# Altium footprint library Lib Marius.PcbLib: 393 footprints (part 9 of 25)
Each footprint in its own frame and in the unit in brackets; x right, y up, seen from the top. Pads: shape width x height; smd on the part's side, far side on the other; paste and mask are expansions set on the pad; w line width, h text height; cw(c..) or ccw(c..) is an arc to the next point about the centre after c.
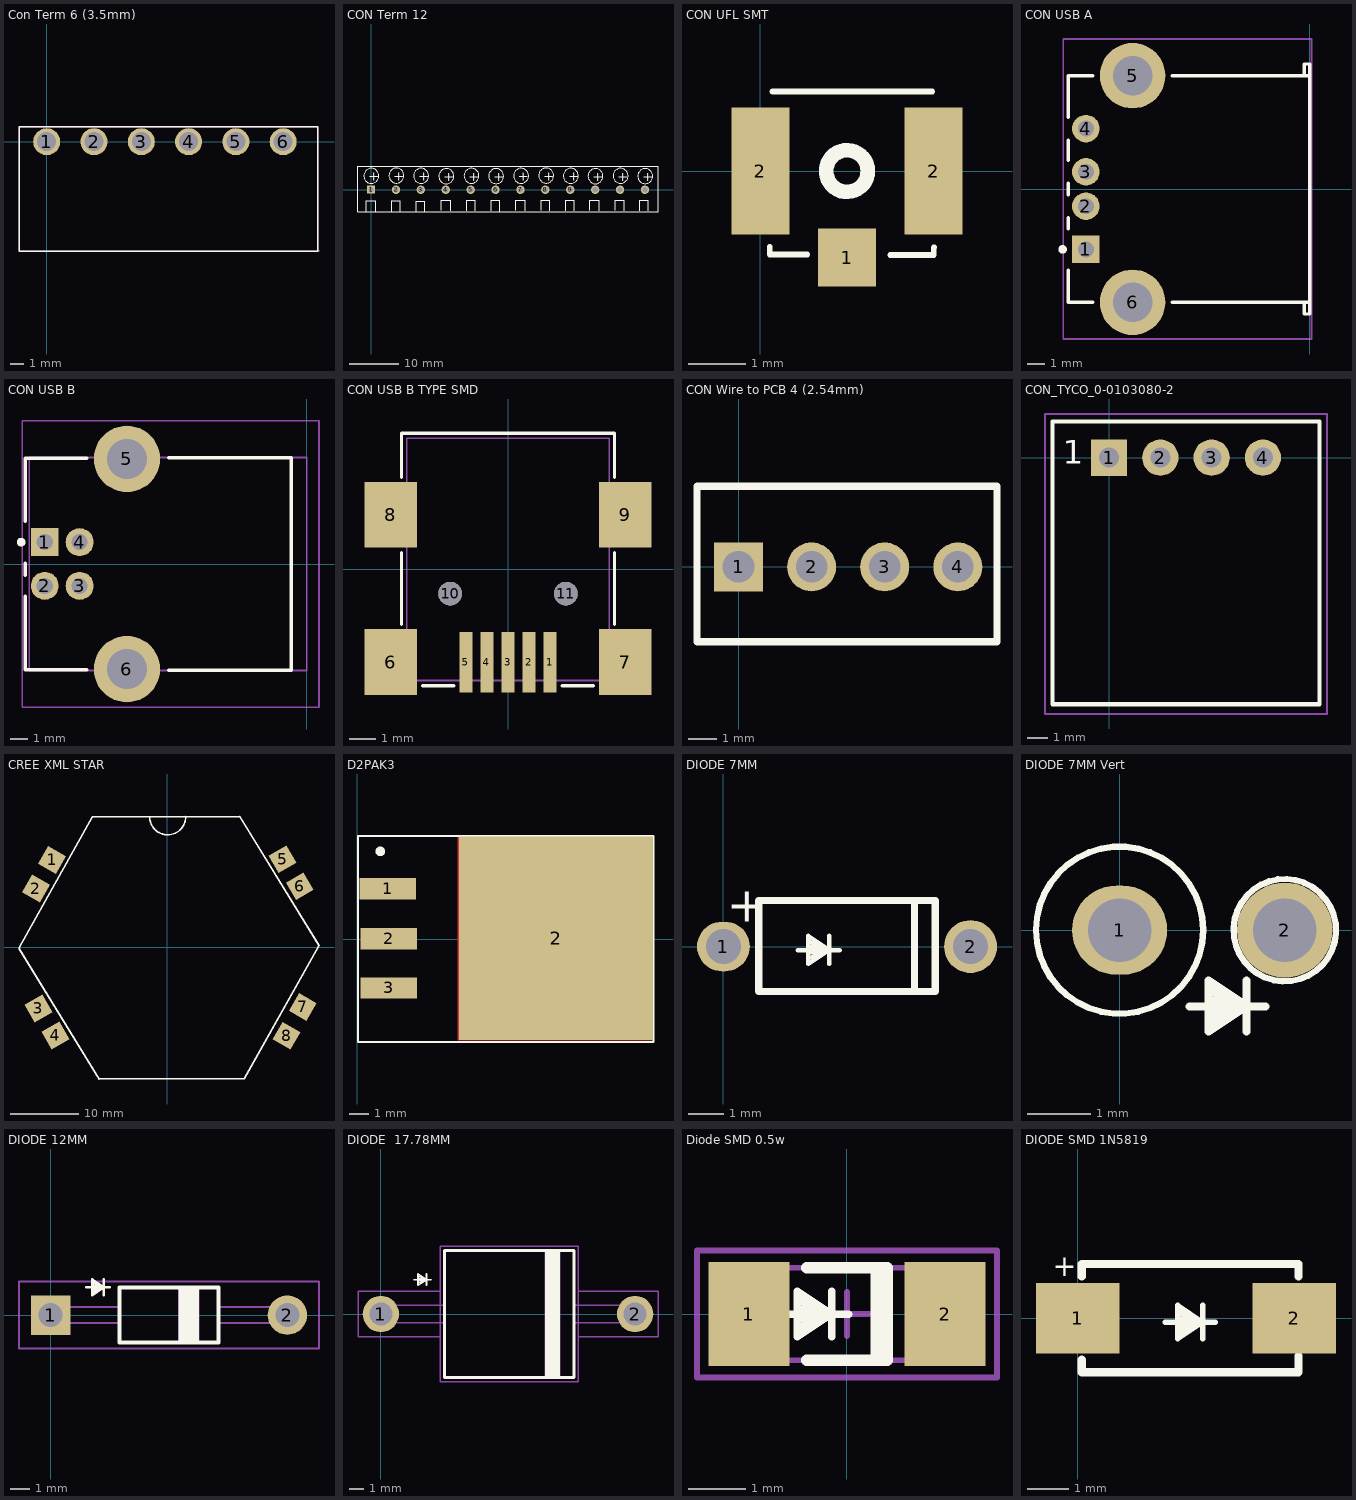
[diagram p8: the footprints below, top view; thin cyan lines are the x and y axes]

## Con Term 6 (3.5mm) [mm] "691322110006"
height 17.5
pads (6):
  round 2 hole 1.4: 1(0,0) 2(3.5,0) 3(7,0) 4(10.5,0) 5(14,0) 6(17.5,0)
Top Overlay:
  lines w0.1: -2.05,-8.1 20.05,-8.1 20.05,1.1 -2.05,1.1 -2.05,-8.1
Mechanical 15:
  lines w0.1: -2.05,-8.1 20.15,-8.1 20.05,-8 20.05,1.1 -2.05,1.1 -2.05,-7.9 -2.05,-8.1
3D body "691322110006.stp": height 7.1, standoff -3.6, extent -2.05,-8.1 20.05,1.1

## CON Term 12 [mm] "Terminal Block, 12 pin, 5.08mm"
pads (12):
  rect 1.7x1.7 hole 1.1: 1(0,0.036)
  round 1.7 hole 1.1: 2(5.091,0) 3(10.16,0) 4(15.24,0) 5(20.32,0) 6(25.4,0) 7(30.48,0) 8(35.56,0) 9(40.64,0) 10(45.72,0) 11(50.8,0) 12(55.88,0)
Top Overlay:
  lines w0.1: -0.942,-4.354 -0.942,-2.295 -0.921,-2.274 0.965,-2.274 0.965,-4.39 ; 4.263,-4.372 4.263,-2.274 4.281,-2.256 6.003,-2.256 6.003,-4.425 ; 9.236,-4.433 9.236,-2.335 9.254,-2.317 10.976,-2.317 10.976,-4.486 ; 14.343,-4.23 14.343,-2.171 14.364,-2.15 16.25,-2.15 16.25,-4.266 ; 19.548,-4.248 19.548,-2.15 19.566,-2.132 21.288,-2.132 21.288,-4.301 ; 24.521,-4.309 24.521,-2.211 24.539,-2.193 26.261,-2.193 26.261,-4.362 ; 29.504,-4.199 29.504,-2.14 29.525,-2.119 31.411,-2.119 31.411,-4.235 ; 34.709,-4.217 34.709,-2.119 34.727,-2.101 36.449,-2.101 36.449,-4.27 ; 39.683,-4.278 39.683,-2.18 39.7,-2.162 41.422,-2.162 41.422,-4.331 ; 44.665,-4.199 44.665,-2.14 44.686,-2.119 46.572,-2.119 46.572,-4.235 ; 49.87,-4.217 49.87,-2.119 49.888,-2.101 51.61,-2.101 51.61,-4.27 ; 54.844,-4.278 54.844,-2.18 54.861,-2.162 56.583,-2.162 56.583,-4.331
  lines w0.2: -2.662,-4.459 -2.662,4.79 58.542,4.79 58.542,-4.459 -2.662,-4.459
  lines w0.254: 1.581,2.916 ccw(c0.056,2.827) 1.583,2.875 ; 6.703,2.986 ccw(c5.179,2.896) 6.705,2.944 ; 11.738,2.925 ccw(c10.213,2.835) 11.739,2.883 ; 16.887,2.854 ccw(c15.362,2.764) 16.889,2.813 ; 22.009,2.923 ccw(c20.485,2.834) 22.011,2.882 ; 27.043,2.862 ccw(c25.519,2.773) 27.045,2.821 ; 32.13,2.916 ccw(c30.605,2.827) 32.132,2.875 ; 37.252,2.986 ccw(c35.728,2.896) 37.254,2.944 ; 42.287,2.925 ccw(c40.762,2.835) 42.289,2.883 ; 47.311,2.854 ccw(c45.786,2.764) 47.313,2.813 ; 52.433,2.923 ccw(c50.909,2.834) 52.435,2.882 ; 57.468,2.862 ccw(c55.943,2.773) 57.469,2.821
  text "+" at 4.544,1.845 h2
  text "+" at -0.601,1.833 h2
  text "+" at 9.639,1.845 h2
  text "+" at 24.945,1.782 h2
  text "+" at 14.704,1.771 h2
  text "+" at 19.85,1.782 h2
  text "+" at 40.189,1.845 h2
  text "+" at 29.948,1.833 h2
  text "+" at 35.093,1.845 h2
  text "+" at 55.369,1.782 h2
  text "+" at 45.129,1.771 h2
  text "+" at 50.274,1.782 h2
3D body "Con 12 Way PCB Screw Terminal Block 5_08mm.STEP": height 15.2, standoff -3.5, extent -2.561,-4.284 58.399,4.716

## CON UFL SMT [mm] "Ultra Small SMD Coaxial Connector"
height 0.5
pads (3):
  rect 1x1 smd: 1(1.5,-1.5)
  rect 1x2.2 smd: 2(0,0) 2(3,0)
Top Overlay:
  circle w0.254: c1.5,0 r0.361
  lines w0.1: 0.16,-1.313 0.16,-1.447 0.811,-1.447 ; 0.209,1.377 2.977,1.377 ; 2.248,-1.454 3.005,-1.454 3.005,-1.327 3.012,-1.32
3D body: height 1, standoff 0, extent 0.558,-1.098 2.55,0.898
3D body: height 0.3, standoff 0, extent 0.3,-1.3 2.9,1.3

## CON USB A [mm] "Connector; USB1.1, Type A, Thru-Hole; 4 Position; Right Angle"
height 7.01
pads (6):
  rect 1.6x1.6 hole 0.92: 1(-12.99,-3.5)
  round 1.6 hole 0.92: 2(-12.99,-1) 3(-12.99,1) 4(-12.99,3.5)
  round 3.8 hole 2.3: 5(-10.28,6.57) 6(-10.28,-6.57)
Top Overlay:
  circle w0.25: c-14.34,-3.5 r0.125
  lines w0.2: -14,-4.7 -14,-6.565 -12.58,-6.565 ; -14,-2.3 -14,-1.66 ; -14,-0.34 -14,0.34 ; -14,1.66 -14,2.84 ; -14,4.16 -14,6.565 -12.58,6.565 ; -7.98,-6.565 0,-6.565 ; -7.98,6.565 0,6.565 ; -0.32,-6.565 -0.32,-7.25 0,-7.25 0,-6.565 ; -0.32,6.565 -0.32,7.25 0,7.25 0,6.565 ; 0,-6.565 0,6.565
  text ".Designator" at -14.281,-10.502 h1.5
Mechanical 15:
  lines w0.1: -14.3,-8.7 0.1,-8.7 0.1,8.4 0.1,8.7 -14.3,8.7 -14.3,-8.7
3D body "Samtec-USB-A-S-F-B-TH.step": height 7.47, standoff -3.53, extent -13.97,-7.375 0.13,7.375

## CON USB B [mm] "Connector; USB1.1, Type B, Thru-Hole; 4 Position; Right Angle"
height 10.95
pads (6):
  rect 1.6x1.6 hole 0.92: 1(-15.01,1.25)
  round 1.6 hole 0.92: 2(-15.01,-1.25) 3(-13.01,-1.25) 4(-13.01,1.25)
  round 3.8 hole 2.3: 5(-10.3,6.02) 6(-10.3,-6.02)
Top Overlay:
  circle w0.25: c-16.36,1.25 r0.125
  lines w0.2: -16.12,-1.85 -16.12,-6.05 -12.6,-6.05 ; -16.12,-0.65 -16.12,0.05 ; -16.12,2.45 -16.12,6.05 -12.6,6.05 ; -7.9,-6.1 -0.9,-6.1 -0.9,6.1 -7.9,6.1
  text ".Designator" at -19.4,1 h1.5
Mechanical 1:
  lines w0.1: 0,-6.05 0,6.05
  text "PCB Edge" at -0.325,-5.651 h0.25
Mechanical 13:
  lines w0.1: -15.9,-6.1 -15.9,6.1 0,6.1 0,-6.1 -15.9,-6.1
Mechanical 15:
  lines w0.1: -16.3,-8.2 0.7,-8.2 0.7,8.2 -16.3,8.2 -16.3,-8.2
3D body "Samtec-USB-B-S-F-B-TH.step": height 10.65, standoff -3.57, extent -15.85,-7.434 0.45,7.425

## CON USB B TYPE SMD [mm]
pads (11):
  rect 0.5x2.3 smd mask+0: 1(1.6,-3.525) 2(0.8,-3.525) 3(0,-3.525) 4(-0.8,-3.525) 5(-1.6,-3.525)
  rect 2x2.5 smd mask+0: 6(-4.45,-3.525) 7(4.45,-3.525) 8(-4.45,2.075) 9(4.45,2.075)
  round 0.9 hole 0.9 unplated mask+0: 10(-2.2,-0.925) 11(2.2,-0.925)
Top Overlay:
  lines w0.127: -4.05,-2.1 -4.05,0.625 ; -4.05,3.5 -4.05,5.175 4.05,5.175 4.05,3.5 ; -3.25,-4.425 -2.05,-4.425 ; 2.05,-4.425 3.25,-4.425 ; 4.05,-2.1 4.05,0.625
Mechanical 13:
  lines w0.065: -3.85,-4.225 -3.85,-2.725 -4.95,-2.725 -4.95,-2.975 cw(c-4.912,-3.437) -4.45,-3.475 cw(c-4.95,-3.475) -4.95,-3.975 -4.95,-4.225 -3.85,-4.225 ; -3.85,-4.225 3.85,-4.225 ; -3.85,-4.225 -3.85,4.975 3.85,4.975 3.85,-4.225 ; 3.85,-4.225 4.95,-4.225 4.95,-3.975 cw(c4.962,-3.463) 4.45,-3.475 cw(c4.962,-3.487) 4.95,-2.975 4.95,-2.725 3.85,-2.725 3.85,-4.225 ; -4.95,1.275 -3.85,1.275 -3.85,2.775 -4.95,2.775 -4.95,2.475 cw(c-4.9,2.075) -4.5,2.025 cw(c-4.925,2) -4.95,1.575 -4.95,1.275 ; 3.85,1.275 4.95,1.275 4.95,1.525 cw(c4.95,2.025) 4.45,2.025 cw(c4.962,2.013) 4.95,2.525 4.95,2.775 3.85,2.775 3.85,1.275
  text ".Designator" at -3.425,-0.012 h0.69
3D body "mini-usb.stp": height 4.15, standoff -1, extent -4.925,-4.3 4.975,5

## CON Wire to PCB 4 (2.54mm) [mm] "Wire to PCB, 4 pin, 2.54mm"
pads (4):
  rect 1.7x1.7 hole 1.1: 1(0,0)
  round 1.7 hole 1.1: 2(2.54,0) 3(5.08,0) 4(7.62,0)
Top Overlay:
  lines w0.254: -1.443,-2.6 8.982,-2.6 8.982,2.8 -1.443,2.8 -1.443,-2.6
3D body "281695-4.stp": height 11, standoff -3.3, extent -1.28,-2.4 8.88,2.6

## CON_TYCO_0-0103080-2 [mm] "Connector, Header, Vertical: Lead Span 2.54mm; Lead Width 0.52; Pin Pitch 2.54; 3 X 1 Pins"
height 13.97
pads (4):
  rect 1.8x1.8 hole 1: 1(0,0)
  round 1.8 hole 1: 2(2.54,0) 3(5.08,0) 4(7.62,0)
Top Overlay:
  lines w0.2: -2.794,-12.217 10.414,-12.217 10.414,1.778 -2.794,1.778 -2.794,-12.217
  text "1" at -2.3,-0.7 h2
  text ".Designator" at -1.143,2.794 h1
Mechanical 13:
  lines w0.1: -2.794,-12.192 10.414,-12.192 10.414,1.778 -2.794,1.778 -2.794,-12.192
  text "1" at -2.286,-0.635 h2
Mechanical 15:
  lines w0.1: -3.175,-12.7 10.795,-12.7 10.795,2.159 -3.175,2.159 -3.175,-12.7
3D body "c-103361-2-n-3d.stp": height 5.77, standoff -2.78, extent -2.794,-12.217 10.414,1.727

## CREE XML STAR [mm] "Cree xml RGBW Heatsink"
height 5.46
pads (8):
  rect 3x3 smd rot 60: 1(-16.902,12.833) 2(-19.275,8.623) 7(19.819,-8.707) 8(17.445,-12.916)
  rect 3x3 smd rot 30: 3(-18.917,-8.931) 4(-16.409,-12.871) 5(16.863,12.922) 6(19.371,8.982)
Top Overlay:
  lines w0.254: -21.753,-0.173 -10.003,-19.301 ; -21.709,0.001 -10.994,19.118 ; -10.832,19.156 10.574,19.156 ; -9.919,-19.229 11.264,-19.229 22.17,0.226 ; -2.616,19.105 ccw(c0.026,19.147) 2.667,19.189 ; 10.587,19.172 22.193,0.277

## D2PAK3 [mm] "3 Pads"
height 4.65
pads (4):
  rect 2.9x1.1 smd: 1(1.573,2.604) 2(1.623,0.039) 3(1.623,-2.501)
  rect 10x10.5 smd paste-4: 2(10.231,0.058)
Top Layer:
  region: 5.169,5.29 5.181,5.277 5.181,-5.194 15.229,-5.194 15.229,5.29 5.157,5.29 5.144,5.302
Top Overlay:
  circle w0.25: c1.19,4.53 r0.125
  lines w0.1: 0.038,-5.279 0.038,5.317 15.26,5.317 15.26,-5.279 0.038,-5.279
Top Paste:
  rectangle: 8.323,-0.596 11.723,4.404
Mechanical 15:
  lines w0.1: 7.323,-0.796 8.323,-0.796 ; 7.823,-1.296 7.823,-0.296
3D body: height 4, standoff 0, extent 5.157,-5.243 15.278,5.326

## DIODE 7MM [mm] "Diode, Thru-Hole; 2 Leads; 0.4 in Pin Spacing"
height 2.54
pads (2):
  oval 1.5x1.4 hole 1: 1(0,0)
  round 1.5 hole 1: 2(7,0)
Top Overlay:
  lines w0.127: 2.1,-0.1 2.4,-0.1 ; 2.4,-0.06 3,-0.06 ; 2.44,-0.32 3,-0.093 ; 2.44,0.133 3,-0.093 ; 2.45,-0.18 3,-0.07 ; 2.45,-0.007 3,-0.117 ; 3,-0.493 3,0.307 ; 3,-0.1 3.3,-0.1 ; 3,-0.093 2.4,0.307 2.4,-0.493 3,-0.093
  lines w0.2: 5.412,-1.27 5.412,1.27 ; 1,-1.27 1,1.3 6,1.3 6,-1.27 1,-1.27
  text "+" at 0.1,0.7 h1
3D body "Diode 1N4007 P7.STEP": height 3.31, standoff -1.9, extent -0.4,-1.32 7.4,1.3

## DIODE 7MM Vert [mm] "Diode, Thru-Hole; 2 Leads; 0.4 in Pin Spacing"
height 2.54
pads (2):
  oval 1.5x1.4 hole 1: 1(0,0)
  round 1.5 hole 1: 2(2.6,0)
Top Overlay:
  circle w0.1: c0,0 r1.315
  lines w0.1: 3.398,0.114 ccw(c2.6,0) 3.4,0.1
  lines w0.127: 1.1,-1.2 1.4,-1.2 ; 1.4,-1.16 2,-1.16 ; 1.44,-1.42 2,-1.193 ; 1.44,-0.967 2,-1.193 ; 1.45,-1.28 2,-1.17 ; 1.45,-1.107 2,-1.217 ; 2,-1.593 2,-0.793 ; 2,-1.2 2.3,-1.2 ; 2,-1.193 1.4,-0.793 1.4,-1.593 2,-1.193
3D body "Diode 1N4007 P7 Vert.STEP": height 7.39, standoff -1, extent -1.2,-1.3 3.067,1.367

## DIODE 12MM [mm] "Diode, Axial, DO-41"
height 9
pads (2):
  rect 2x2 hole 1.2: 1(0,0)
  round 2 hole 1.2: 2(12,0)
Top Overlay:
  region: 7.5,-1.4 6.5,-1.4 6.5,1.4 7.5,1.4
  lines w0.127: 1.8,1.4 2.1,1.4 ; 2.1,1.44 2.7,1.44 ; 2.14,1.18 2.7,1.407 ; 2.14,1.633 2.7,1.407 ; 2.15,1.32 2.7,1.43 ; 2.15,1.493 2.7,1.383 ; 2.7,1.007 2.7,1.807 ; 2.7,1.4 3,1.4 ; 2.7,1.407 2.1,1.007 2.1,1.807 2.7,1.407
  lines w0.203: 3.5,-1.4 8.5,-1.4 8.5,1.4 3.5,1.4 3.5,-1.4
Mechanical 13:
  lines w0.1: 6.5,-1.4 6.5,1.4 ; 7.5,-1.4 7.5,1.4 ; -0.3,-0.4 -0.3,0.4 3.5,0.4 3.5,-0.4 -0.3,-0.4 ; 3.5,-1.4 3.5,1.4 8.5,1.4 8.5,-1.4 3.5,-1.4 ; 8.5,-0.4 12.3,-0.4 12.3,0.4 8.5,0.4 8.5,-0.4
Mechanical 15:
  lines w0.1: -1.6,-1.7 -1.6,1.7 4.145,1.7 13.6,1.7 13.6,-1.7 4.145,-1.7 -1.6,-1.7
3D body: height 1.8, standoff 0.9, extent 8.5,-0.45 12.5,0.448
3D body: height 1.35, standoff -2.65, extent 11.549,-0.449 12.445,0.449
3D body: height 1.35, standoff -2.65, extent -0.445,-0.449 0.451,0.449
3D body: height 1.8, standoff 0.9, extent -0.5,-0.449 3.5,0.449
3D body: height 2.69, standoff 0, extent 3.5,-1.347 6.5,1.347
3D body: height 2.7, standoff 0.01, extent 7.5,-1.347 8.5,1.347
3D body: height 2.7, standoff 0.01, extent 6.5,-1.347 7.5,1.347

## DIODE  17.78MM [mil] "DIODE - 17.78MM"
height 354.33
pads (2):
  round 100 / inner round 60 / far side round 100 hole 63 mask+10: 1(0,0) 2(700,0)
Top Overlay:
  region: 452.76,175 492.13,175 492.13,-175 452.76,-175
  lines w5: 90.55,94.49 102.36,94.49 ; 102.36,96.06 125.98,96.06 ; 103.94,85.83 125.98,94.75 ; 103.94,103.68 125.98,94.75 ; 104.33,91.34 125.98,95.67 ; 104.33,98.17 125.98,93.84 ; 125.98,79.01 125.98,110.5 ; 125.98,94.49 137.8,94.49 ; 125.98,94.75 102.36,110.5 102.36,79.01 125.98,94.75
  lines w8: 175,-175 531.5,-175 531.5,175 175,175 175,-175
Mechanical 13:
  lines w3.94: 452.76,-176.82 452.76,176.82 ; 492.13,-176.82 492.13,176.82 ; -19.68,-23.62 177.17,-23.62 177.17,23.62 -19.68,23.62 -19.68,-23.62 ; 177.17,-176.82 531.5,-176.82 531.5,176.82 177.17,176.82 177.17,-176.82 ; 531.5,-23.62 531.5,23.62 720.47,23.62 720.47,-23.62 531.5,-23.62
Mechanical 15:
  lines w3.93: 163.19,-186.81 543.31,-186.81 543.31,186.81 163.19,186.81 163.19,-186.81
  lines w3.94: -62.99,-62.99 163.19,-62.99 163.19,62.99 -62.99,62.99 -62.99,-62.99 ; 543.31,-62.99 543.31,62.99 762.99,62.99 762.99,-62.99 543.31,-62.99
3D body: height 354.33, standoff 1.4, extent 452.76,-176.81 492.13,176.82
3D body: height 354.33, standoff 1.4, extent 492.13,-176.81 531.5,176.82
3D body: height 352.93, standoff 0, extent 177.17,-176.82 452.76,176.82
3D body: height 200.79, standoff 153.73, extent -23.62,-23.53 177.17,23.62
3D body: height 177.17, standoff -19.68, extent -23.44,-23.58 23.62,23.58
3D body: height 177.17, standoff -19.68, extent 677.17,-23.58 724.22,23.58
3D body: height 200.79, standoff 153.73, extent 527.56,-23.62 724.41,23.53

## Diode SMD 0.5w [mm] "Metal Electrode Face (MELF) Diode; Body 3.5 x 1.7 mm (LxDia)"
height 1.7
pads (2):
  rect 1.4x1.8 smd: 1(-1.7,0) 2(1.7,0)
Top Overlay:
  lines w0.127: -1.165,-0.007 -0.865,-0.007 ; -0.865,0.033 -0.265,0.033 ; -0.825,-0.227 -0.265,0 ; -0.825,0.227 -0.265,0 ; -0.815,-0.087 -0.265,0.023 ; -0.815,0.087 -0.265,-0.023 ; -0.265,-0.4 -0.265,0.4 ; -0.265,-0.007 0.035,-0.007 ; -0.265,0 -0.865,0.4 -0.865,-0.4 -0.265,0
  lines w0.2: -0.7,-0.8 0.7,-0.8 0.7,0.8 -0.7,0.8 ; 0.51,-0.8 0.51,0.8
Mechanical 13:
  region: 1.8,0.8 1.8,-0.8 1.3,-0.8 1.3,0.8
  lines w0.1: 1.8,-0.8 -1.8,-0.8 -1.8,0.8 1.8,0.8 ; 1.8,-0.8 1.8,0.8 ; 1.8,-0.8 1.3,-0.8 1.3,0.8 1.8,0.8
Mechanical 15:
  lines w0.1: -0.381,0 0.381,0 ; 0,-0.381 0,0.381 ; -2.6,-1.1 -2.6,1.1 2.6,1.1 2.6,-1.1 -2.6,-1.1
3D body "DIOMELF3515N.step": height 1.5, standoff 0, extent -1.75,-0.75 1.75,0.75

## DIODE SMD 1N5819 [mm] "DIODE SMD 1808"
height 2.62
pads (2):
  rect 2x1.7 smd: 1(0,0) 2(5.2,0)
Top Overlay:
  lines w0.127: 2.1,-0.1 2.4,-0.1 ; 2.4,-0.06 3,-0.06 ; 2.44,-0.32 3,-0.093 ; 2.44,0.133 3,-0.093 ; 2.45,-0.18 3,-0.07 ; 2.45,-0.007 3,-0.117 ; 3,-0.493 3,0.307 ; 3,-0.1 3.3,-0.1 ; 3,-0.093 2.4,0.307 2.4,-0.493 3,-0.093
  lines w0.2: 0.1,-1 0.1,-1.3 5.3,-1.3 5.3,-0.9 ; 0.1,1 0.1,1.3 5.3,1.3 5.3,1
  text "+" at -0.6,1 h0.5
Mechanical 13:
  lines w0.1: 0.3,-0.7 0,-0.7 0,0.7 0.3,0.7 ; 4.9,-0.7 5.2,-0.7 5.2,0.7 4.9,0.7
3D body "SW3dPS-DO-214AC SMA.STEP": height 2.39, standoff -0.01, extent 0.1,-1.3 5.3,1.3